# EAGLE library part TI-MSP430FR2311IPW20R (library ClintonLib)
Low-cost mixed-signal microcontroller, 16 MHz, 1.8-3.6Vin, 1KB RAM, 3.75KB FRAM, 8x10-bit ADC, 20-TSSOP Digikey <https://www.digikey.com/product-detail/en/texas-instruments/MSP430FR2311IPW20R/296-47310-2-ND/6098079> (@ 2000+ qty) Digikey <https://www.digikey.com/product-detail/en/texas-instruments/MSP430FR2311IPW20R/296-47310-1-ND/7688320> (@ 1 qty) Datasheet <http://www.ti.com/lit/ds/slase58c/slase58c.pdf>
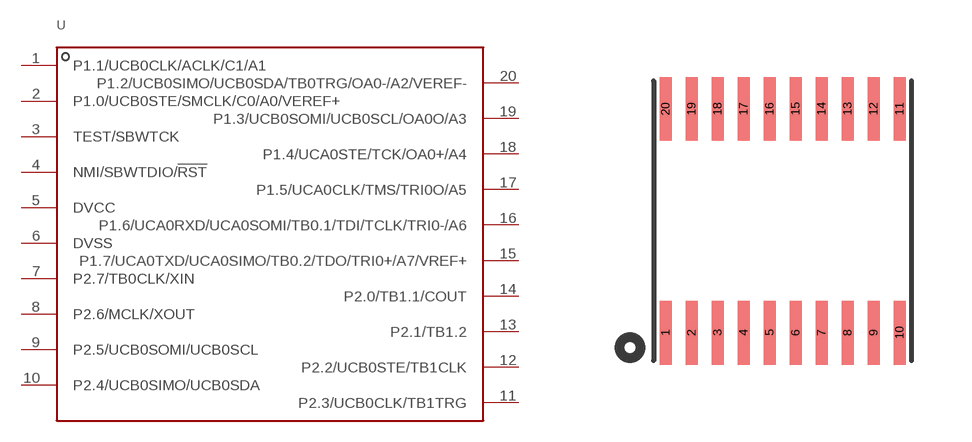
[diagram p27: symbol with the pads of TSSOP-20; footprint TSSOP-20]

Designator prefix -

## TI-MSP430FR2311IPW20R  [TSSOP-20]
1  P1.1/UCB0CLK/ACLK/C1/A1
2  P1.0/UCB0STE/SMCLK/C0/A0/VEREF+
3  TEST/SBWTCK
4  NMI/SBWTDIO/!RST
5  DVCC
6  DVSS
7  P2.7/TB0CLK/XIN
8  P2.6/MCLK/XOUT
9  P2.5/UCB0SOMI/UCB0SCL
10  P2.4/UCB0SIMO/UCB0SDA
11  P2.3/UCB0CLK/TB1TRG
12  P2.2/UCB0STE/TB1CLK
13  P2.1/TB1.2
14  P2.0/TB1.1/COUT
15  P1.7/UCA0TXD/UCA0SIMO/TB0.2/TDO/TRI0+/A7/VREF+
16  P1.6/UCA0RXD/UCA0SOMI/TB0.1/TDI/TCLK/TRI0-/A6
17  P1.5/UCA0CLK/TMS/TRI0O/A5
18  P1.4/UCA0STE/TCK/OA0+/A4
19  P1.3/UCB0SOMI/UCB0SCL/OA0O/A3
20  P1.2/UCB0SIMO/UCB0SDA/TB0TRG/OA0-/A2/VEREF-

## Footprint TSSOP-20 (pad centres in mm)
smd 0.3 x 1.6: 1 0,0; 2 0.65,0; 3 1.3,0; 4 1.95,0; 5 2.6,0; 6 3.25,0; 7 3.9,0; 8 4.55,0; 9 5.2,0; 10 5.85,0; 11 5.85,5.6; 12 5.2,5.6; 13 4.55,5.6; 14 3.9,5.6; 15 3.25,5.6; 16 2.6,5.6; 17 1.95,5.6; 18 1.3,5.6; 19 0.65,5.6; 20 0,5.6